# EAGLE library part TDA8591J (library Audio-Power-amlifier V.2.0)
The TDA8591J is a quad BTL audio power amplifier comprising four independent amplifiers in Bridge Tied Load (BTL) configuration. Each amplifier has a gain of 26 dB and supplies an output power of 75 W (EIAJ) into a 2 W load. The TDA8591J has low quiescent current and is primarily developed for car audio applications.
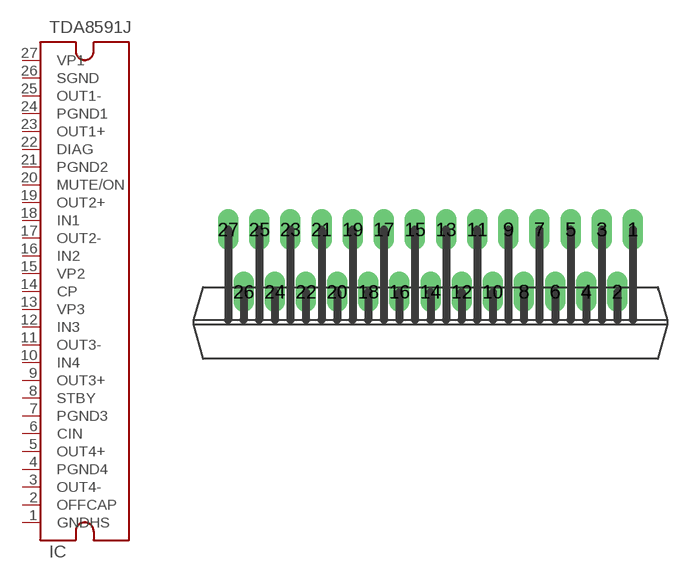
[diagram p157: symbol with the pads of SOT521-1; footprint SOT521-1]

Designator prefix IC

## TDA8591J  [SOT521-1]
1  GNDHS  pwr
2  OFFCAP
3  OUT4-  out
4  PGND4  pwr
5  OUT4+  out
6  CIN  in
7  PGND3  pwr
8  STBY  in
9  OUT3+  out
10  IN4  in
11  OUT3-  out
12  IN3  in
13  VP3  pwr
14  CP
15  VP2  pwr
16  IN2  in
17  OUT2-  out
18  IN1  in
19  OUT2+  out
20  MUTE/ON  in
21  PGND2  pwr
22  DIAG  out
23  OUT1+  out
24  PGND1  pwr
25  OUT1-  out
26  SGND  pwr
27  VP1  pwr

## Footprint SOT521-1 (pad centres in mm)
drill 0.8 long: 1 13,4; 2 12,0; 3 11,4; 4 10,0; 5 9,4; 6 8,0; 7 7,4; 8 6,0; 9 5,4; 10 4,0; 11 3,4; 12 2,0; 13 1,4; 14 0,0; 15 -1,4; 16 -2,0; 17 -3,4; 18 -4,0; 19 -5,4; 20 -6,0; 21 -7,4; 22 -8,0; 23 -9,4; 24 -10,0; 25 -11,4; 26 -12,0; 27 -13,4